# EAGLE library part AT90USB (library sf-keyglove)
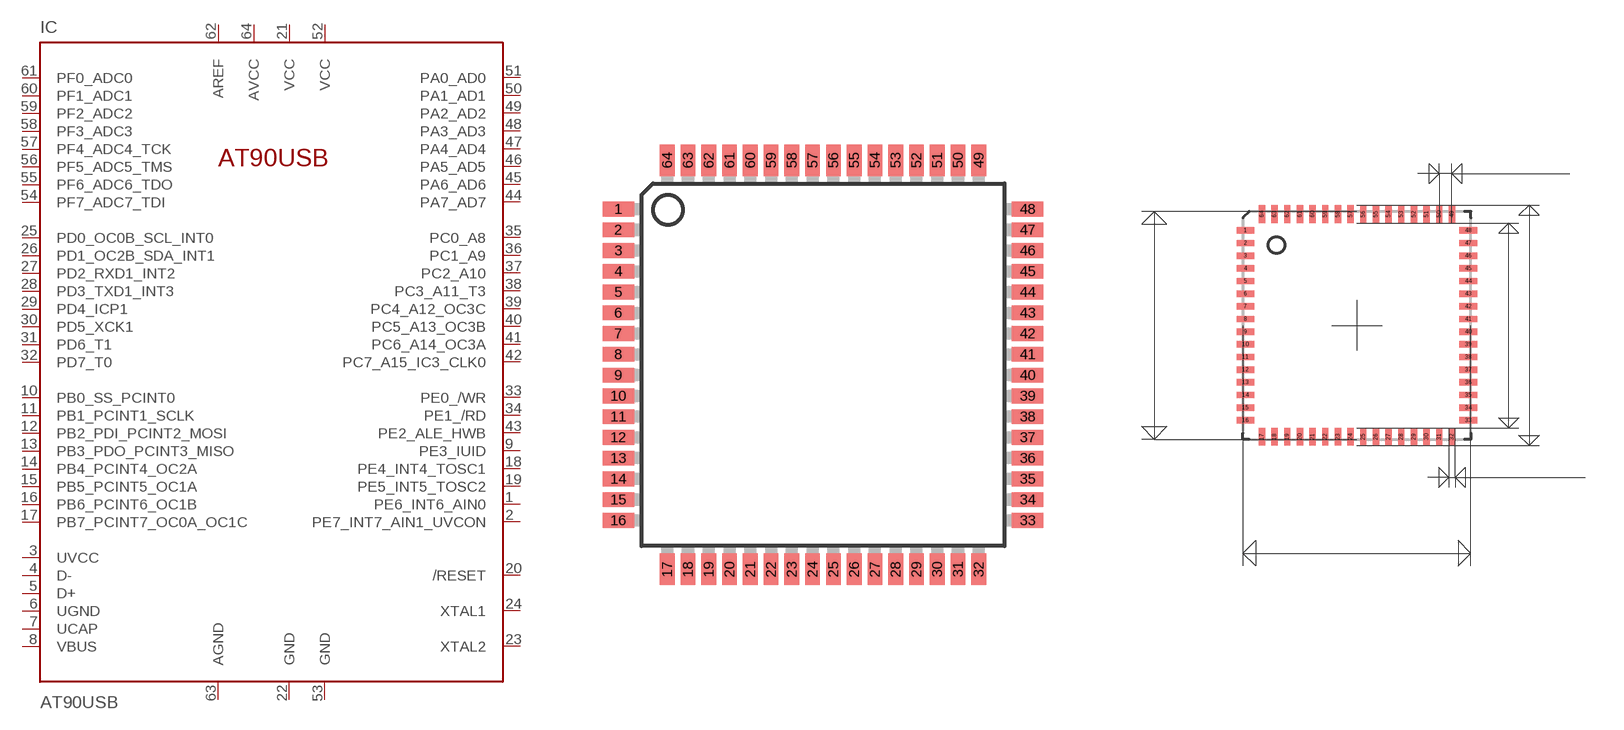
[diagram p4: symbol with the pads of TQFP64; footprints TQFP64, QFN64]

Designator prefix IC

## AT90USB-TQFP  [TQFP64]
1  PE6_INT6_AIN0
2  PE7_INT7_AIN1_UVCON
3  UVCC  pwr
4  D-
5  D+
6  UGND  pwr
7  UCAP  pwr
8  VBUS
9  PE3_IUID
10  PB0_SS_PCINT0
11  PB1_PCINT1_SCLK
12  PB2_PDI_PCINT2_MOSI
13  PB3_PDO_PCINT3_MISO
14  PB4_PCINT4_OC2A
15  PB5_PCINT5_OC1A
16  PB6_PCINT6_OC1B
17  PB7_PCINT7_OC0A_OC1C
18  PE4_INT4_TOSC1
19  PE5_INT5_TOSC2
20  /RESET
21  VCC  pwr
22  GND  pwr
23  XTAL2  pas
24  XTAL1  pas
25  PD0_OC0B_SCL_INT0
26  PD1_OC2B_SDA_INT1
27  PD2_RXD1_INT2
28  PD3_TXD1_INT3
29  PD4_ICP1
30  PD5_XCK1
31  PD6_T1
32  PD7_T0
33  PE0_/WR
34  PE1_/RD
35  PC0_A8
36  PC1_A9
37  PC2_A10
38  PC3_A11_T3
39  PC4_A12_OC3C
40  PC5_A13_OC3B
41  PC6_A14_OC3A
42  PC7_A15_IC3_CLK0
43  PE2_ALE_HWB
44  PA7_AD7
45  PA6_AD6
46  PA5_AD5
47  PA4_AD4
48  PA3_AD3
49  PA2_AD2
50  PA1_AD1
51  PA0_AD0
52  VCC  pwr
53  GND  pwr
54  PF7_ADC7_TDI
55  PF6_ADC6_TDO
56  PF5_ADC5_TMS
57  PF4_ADC4_TCK
58  PF3_ADC3
59  PF2_ADC2
60  PF1_ADC1
61  PF0_ADC0
62  AREF  pwr
63  AGND  pwr
64  AVCC  pwr

## AT90USB-QFN  [QFN64]
Pads as for TQFP64

## Footprint TQFP64 (pad centres in mm)
Thin Quad Flat Package Plasic
smd 1.194 x 0.559: 1 -7.76,5.905; 2 -7.76,5.118; 3 -7.76,4.331; 4 -7.76,3.543; 5 -7.76,2.756; 6 -7.76,1.968; 7 -7.76,1.181; 8 -7.76,0.394; 9 -7.76,-0.394; 10 -7.76,-1.181; 11 -7.76,-1.968; 12 -7.76,-2.756; 13 -7.76,-3.543; 14 -7.76,-4.331; 15 -7.76,-5.118; 16 -7.76,-5.905; 33 7.76,-5.905; 34 7.76,-5.118; 35 7.76,-4.331; 36 7.76,-3.543; 37 7.76,-2.756; 38 7.76,-1.968; 39 7.76,-1.181; 40 7.76,-0.394; 41 7.76,0.394; 42 7.76,1.181; 43 7.76,1.968; 44 7.76,2.756; 45 7.76,3.543; 46 7.76,4.331; 47 7.76,5.118; 48 7.76,5.905
smd 0.559 x 1.194: 17 -5.905,-7.76; 18 -5.118,-7.76; 19 -4.331,-7.76; 20 -3.543,-7.76; 21 -2.756,-7.76; 22 -1.968,-7.76; 23 -1.181,-7.76; 24 -0.394,-7.76; 25 0.394,-7.76; 26 1.181,-7.76; 27 1.968,-7.76; 28 2.756,-7.76; 29 3.543,-7.76; 30 4.331,-7.76; 31 5.118,-7.76; 32 5.905,-7.76; 49 5.905,7.76; 50 5.118,7.76; 51 4.331,7.76; 52 3.543,7.76; 53 2.756,7.76; 54 1.968,7.76; 55 1.181,7.76; 56 0.394,7.76; 57 -0.394,7.76; 58 -1.181,7.76; 59 -1.968,7.76; 60 -2.756,7.76; 61 -3.543,7.76; 62 -4.331,7.76; 63 -5.118,7.76; 64 -5.905,7.76

## Footprint QFN64 (pad centres in mm)
Quad Flat No Lead Package
smd 0.7 x 0.25: 1 -4.4,3.75; 2 -4.4,3.25; 3 -4.4,2.75; 4 -4.4,2.25; 5 -4.4,1.75; 6 -4.4,1.25; 7 -4.4,0.75; 8 -4.4,0.25; 9 -4.4,-0.25; 10 -4.4,-0.75; 11 -4.4,-1.25; 12 -4.4,-1.75; 13 -4.4,-2.25; 14 -4.4,-2.75; 15 -4.4,-3.25; 16 -4.4,-3.75; 33 4.4,-3.75; 34 4.4,-3.25; 35 4.4,-2.75; 36 4.4,-2.25; 37 4.4,-1.75; 38 4.4,-1.25; 39 4.4,-0.75; 40 4.4,-0.25; 41 4.4,0.25; 42 4.4,0.75; 43 4.4,1.25; 44 4.4,1.75; 45 4.4,2.25; 46 4.4,2.75; 47 4.4,3.25; 48 4.4,3.75
smd 0.25 x 0.7: 17 -3.75,-4.4; 18 -3.25,-4.4; 19 -2.75,-4.4; 20 -2.25,-4.4; 21 -1.75,-4.4; 22 -1.25,-4.4; 23 -0.75,-4.4; 24 -0.25,-4.4; 25 0.25,-4.4; 26 0.75,-4.4; 27 1.25,-4.4; 28 1.75,-4.4; 29 2.25,-4.4; 30 2.75,-4.4; 31 3.25,-4.4; 32 3.75,-4.4; 49 3.75,4.4; 50 3.25,4.4; 51 2.75,4.4; 52 2.25,4.4; 53 1.75,4.4; 54 1.25,4.4; 55 0.75,4.4; 56 0.25,4.4; 57 -0.25,4.4; 58 -0.75,4.4; 59 -1.25,4.4; 60 -1.75,4.4; 61 -2.25,4.4; 62 -2.75,4.4; 63 -3.25,4.4; 64 -3.75,4.4